# EAGLE library part 2410* (library Lumberg)
USB Buchse Typ A
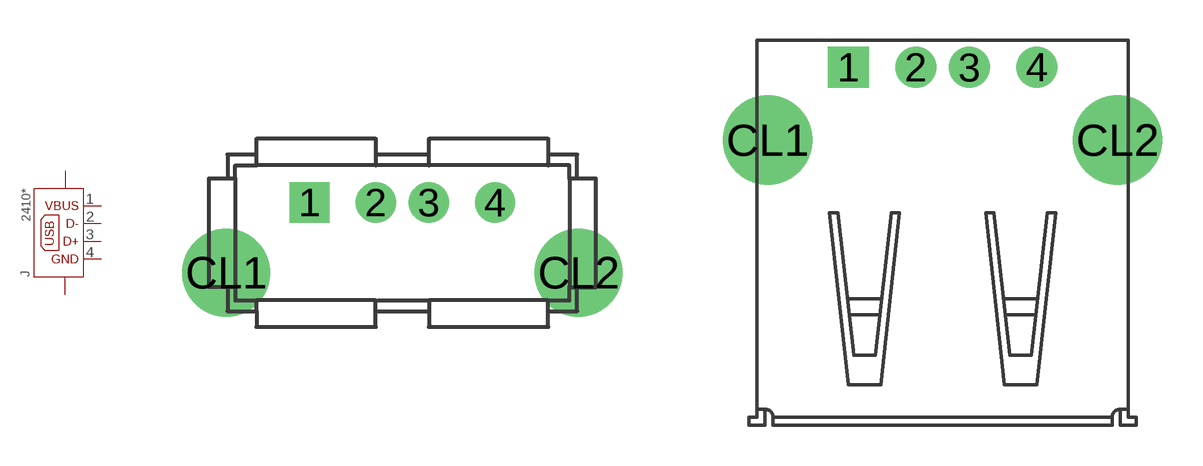
[diagram p0: symbol with the pads of 241001; footprints 241001, 241002]

Designator prefix J

## 2410-01  [241001]
1  1
2  2
3  3
4  4
CL1  CL1
CL2  CL2

## 2410-02  [241002]
Pads as for 241001

## Footprint 241001 (pad centres in mm)
drill 1 pad 1.524 square: 1 -3.5,0
drill 1 pad 1.524: 2 -1,0; 3 1,0; 4 3.5,0
drill 2.3 pad 2.794: CL1 -6.65,-2.66; CL2 6.65,-2.66

## Footprint 241002 (pad centres in mm)
drill 1 pad 1.524 square: 1 -3.5,0
drill 1 pad 1.524: 2 -1,0; 3 1,0; 4 3.5,0
drill 2.3 pad 2.794: CL1 -6.5,-2.7; CL2 6.5,-2.7